# Altium footprint library Boots.PcbLib: 1 footprints
Each footprint in its own frame and in the unit in brackets; x right, y up, seen from the top. Pads: shape width x height; smd on the part's side, far side on the other; paste and mask are expansions set on the pad; w line width, h text height; cw(c..) or ccw(c..) is an arc to the next point about the centre after c.
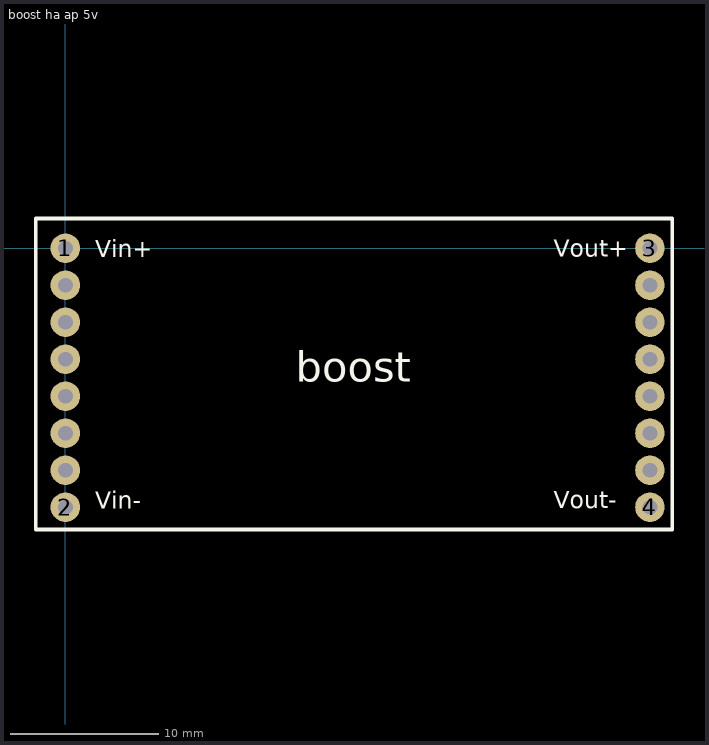
[diagram p0: the footprint, top view; thin cyan lines are the x and y axes]

## boost ha ap 5v [mm]
pads (16):
  round 2 hole 1: 1(0,0) 2(0,-17.5) 3(39.497,0) 4(39.497,-17.5) ""(0,-15) ""(0,-12.5) ""(0,-10) ""(0,-7.5) ""(0,-5) ""(0,-2.5) ""(39.497,-15) ""(39.497,-12.5) ""(39.497,-10) ""(39.497,-7.5) ""(39.497,-5) ""(39.497,-2.5)
Top Overlay:
  lines w0.254: -2,-19 41,-19 41,2 -2,2 -2,-19
  text "Vin-" at 2.002,-18 h2
  text "boost" at 15.571,-9.697 h3.5
  text "Vin+" at 2.002,-1 h2
  text "Vout+" at 33.002,-0.98 h2
  text "Vout-" at 33.002,-17.98 h2
3D body "jumper cai 8x2.54.step": height 5.25, standoff -2.75, extent 38.247,-19.02 40.747,1.8
3D body "jumper cai 8x2.54.step": height 5.25, standoff -2.75, extent -1.25,-19.02 1.25,1.8
3D body "stepup CN6009.SLDPRT": height 18.4, standoff 3.9, extent -1.648,-18.792 41.752,2.008